# EAGLE library part EYAGJNZXX (library TAIYO-YUDEN)
Wireless Module: ANTTM + Bluetooth® Smart (BLE) Frequency: 2402 to 2480 MHz Output power: +4dBm typ. Single power supply: 1.8 – 3.6V ANTTM + Single Mode Bluetooth® Smart Slave Integrated System Clock Integrated high performance pattern antenna ARM Cortex M0 32bit processor and 256KB flash and 32KB RAM Interface: SPI, UART, I2C and 8/9/10bit ADC Outline: 5.1 x 11.3 x 1.3 mm MAX Bluetooth® and Japan, FCC, IC qualified RoHS compliant / Complete Lead Free
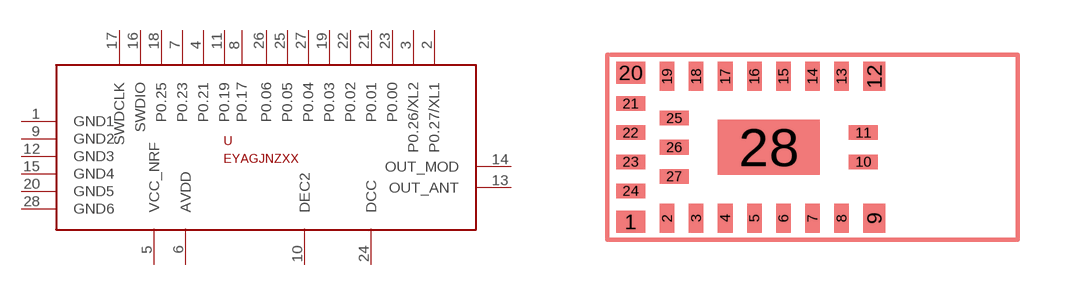
[diagram p0: symbol with the pads of EYAGJNZXX; footprint EYAGJNZXX]

Designator prefix -

## EYAGJNZXXEYAGJNZXX  [EYAGJNZXX]
1  GND1  pwr
2  P0.27/XL1
3  P0.26/XL2
4  P0.21
5  VCC_NRF  pwr
6  AVDD  pwr
7  P0.23
8  P0.17
9  GND2  pwr
10  DEC2  nc
11  P0.19
12  GND3  pwr
13  OUT_ANT
14  OUT_MOD
15  GND4  pwr
16  SWDIO
17  SWDCLK
18  P0.25
19  P0.03
20  GND5  pwr
21  P0.01
22  P0.02
23  P0.00
24  DCC  nc
25  P0.05
26  P0.06
27  P0.04
28  GND6  pwr

## Footprint EYAGJNZXX (pad centres in mm)
smd 0.8 x 0.6: 1 -3.8,-2.05; 20 -3.8,2.05
smd 0.4 x 0.8: 2 -2.8,-1.95; 3 -2,-1.95; 4 -1.2,-1.95; 5 -0.4,-1.95; 6 0.4,-1.95; 7 1.2,-1.95; 8 2,-1.95; 13 2,1.95; 14 1.2,1.95; 15 0.4,1.95; 16 -0.4,1.95; 17 -1.2,1.95; 18 -2,1.95; 19 -2.8,1.95
smd 0.6 x 0.8: 9 2.9,-1.95; 12 2.9,1.95
smd 0.8 x 0.4: 10 2.6,-0.4; 11 2.6,0.4; 21 -3.8,1.2; 22 -3.8,0.4; 23 -3.8,-0.4; 24 -3.8,-1.2; 25 -2.6,0.8; 26 -2.6,0; 27 -2.6,-0.8
smd 2.8 x 1.5: 28 0,0